# EAGLE library part NEC6-100 (library FaBo-Connetor)
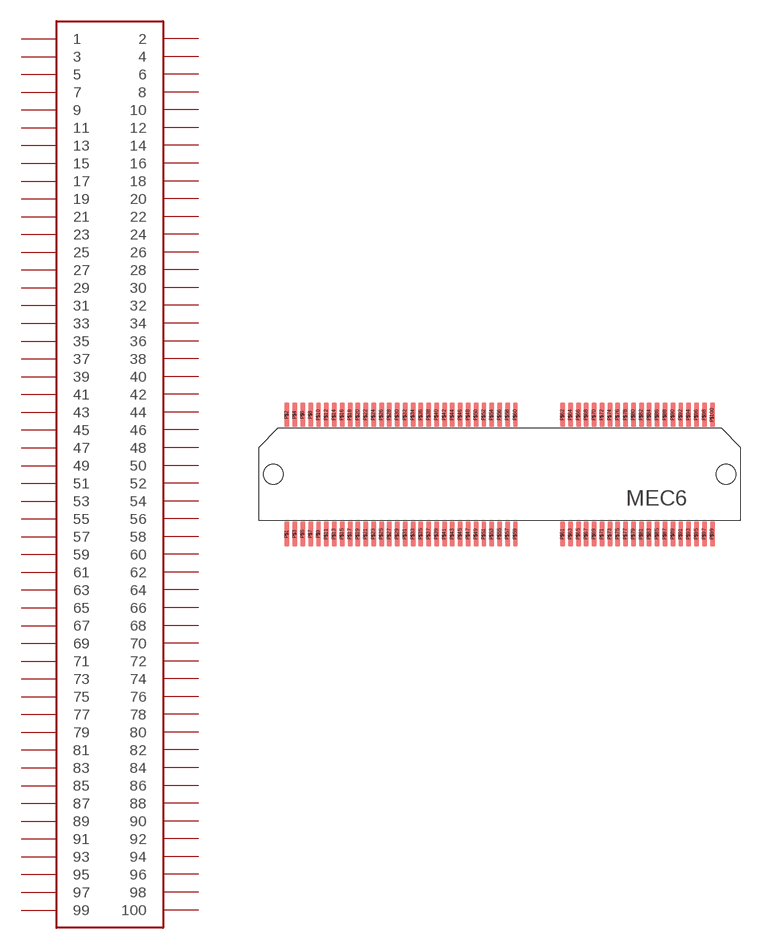
[diagram p1: symbol with the pads of MEC6-100; footprint MEC6-100]

Designator prefix CN

## NEC6-100  [MEC6-100]
P$1  1
P$2  2
P$3  3
P$4  4
P$5  5
P$6  6
P$7  7
P$8  8
P$9  9
P$10  10
P$11  11
P$12  12
P$13  13
P$14  14
P$15  15
P$16  16
P$17  17
P$18  18
P$19  19
P$20  20
P$21  21
P$22  22
P$23  23
P$24  24
P$25  25
P$26  26
P$27  27
P$28  28
P$29  29
P$30  30
P$31  31
P$32  32
P$33  33
P$34  34
P$35  35
P$36  36
P$37  37
P$38  38
P$39  39
P$40  40
P$41  41
P$42  42
P$43  43
P$44  44
P$45  45
P$46  46
P$47  47
P$48  48
P$49  49
P$50  50
P$51  51
P$52  52
P$53  53
P$54  54
P$55  55
P$56  56
P$57  57
P$58  58
P$59  59
P$60  60
P$61  61
P$62  62
P$63  63
P$64  64
P$65  65
P$66  66
P$67  67
P$68  68
P$69  69
P$70  70
P$71  71
P$72  72
P$73  73
P$74  74
P$75  75
P$76  76
P$77  77
P$78  78
P$79  79
P$80  80
P$81  81
P$82  82
P$83  83
P$84  84
P$85  85
P$86  86
P$87  87
P$88  88
P$89  89
P$90  90
P$91  91
P$92  92
P$93  93
P$94  94
P$95  95
P$96  96
P$97  97
P$98  98
P$99  99
P$100  100

## Footprint MEC6-100 (pad centres in mm)
smd 0.4 x 2: P$1 -17.145,-4.8; P$2 -17.145,4.8; P$3 -16.51,-4.8; P$4 -16.51,4.8; P$5 -15.875,-4.8; P$6 -15.875,4.8; P$7 -15.24,-4.8; P$8 -15.24,4.8; P$9 -14.605,-4.8; P$10 -14.605,4.8; P$11 -13.97,-4.8; P$12 -13.97,4.8; P$13 -13.335,-4.8; P$14 -13.335,4.8; P$15 -12.7,-4.8; P$16 -12.7,4.8; P$17 -12.065,-4.8; P$18 -12.065,4.8; P$19 -11.43,-4.8; P$20 -11.43,4.8; P$21 -10.795,-4.8; P$22 -10.795,4.8; P$23 -10.16,-4.8; P$24 -10.16,4.8; P$25 -9.525,-4.8; P$26 -9.525,4.8; P$27 -8.89,-4.8; P$28 -8.89,4.8; P$29 -8.255,-4.8; P$30 -8.255,4.8; P$31 -7.62,-4.8; P$32 -7.62,4.8; P$33 -6.985,-4.8; P$34 -6.985,4.8; P$35 -6.35,-4.8; P$36 -6.35,4.8; P$37 -5.715,-4.8; P$38 -5.715,4.8; P$39 -5.08,-4.8; P$40 -5.08,4.8; P$41 -4.445,-4.8; P$42 -4.445,4.8; P$43 -3.81,-4.8; P$44 -3.81,4.8; P$45 -3.175,-4.8; P$46 -3.175,4.8; P$47 -2.54,-4.8; P$48 -2.54,4.8; P$49 -1.905,-4.8; P$50 -1.905,4.8; P$51 -1.27,-4.8; P$52 -1.27,4.8; P$53 -0.635,-4.8; P$54 -0.635,4.8; P$55 0,-4.8; P$56 0,4.8; P$57 0.635,-4.8; P$58 0.635,4.8; P$59 1.27,-4.8; P$60 1.27,4.8; P$61 5.08,-4.8; P$62 5.08,4.8; P$63 5.715,-4.8; P$64 5.715,4.8; P$65 6.35,-4.8; P$66 6.35,4.8; P$67 6.985,-4.8; P$68 6.985,4.8; P$69 7.62,-4.8; P$70 7.62,4.8; P$71 8.255,-4.8; P$72 8.255,4.8; P$73 8.89,-4.8; P$74 8.89,4.8; P$75 9.525,-4.8; P$76 9.525,4.8; P$77 10.16,-4.8; P$78 10.16,4.8; P$79 10.795,-4.8; P$80 10.795,4.8; P$81 11.43,-4.8; P$82 11.43,4.8; P$83 12.065,-4.8; P$84 12.065,4.8; P$85 12.7,-4.8; P$86 12.7,4.8; P$87 13.335,-4.8; P$88 13.335,4.8; P$89 13.97,-4.8; P$90 13.97,4.8; P$91 14.605,-4.8; P$92 14.605,4.8; P$93 15.24,-4.8; P$94 15.24,4.8; P$95 15.875,-4.8; P$96 15.875,4.8; P$97 16.51,-4.8; P$98 16.51,4.8; P$99 17.145,-4.8; P$100 17.145,4.8
hole 1.6 at -18.245,0
hole 1.6 at 18.245,0